# EAGLE library part 05_PINHEAD_1X14 (library femtoduino)
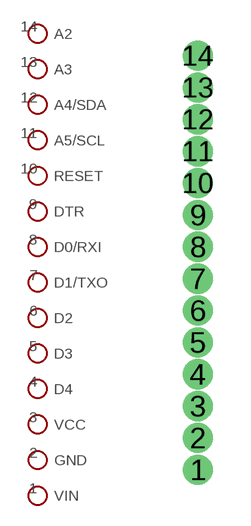
[diagram p3: symbol with the pads of 05_PINHEAD_1X14_PACKAGE; footprint 05_PINHEAD_1X14_PACKAGE]

Designator prefix -

## 05_PINHEAD_1X14  [05_PINHEAD_1X14_PACKAGE]
1  VIN
2  GND
3  VCC
4  D4
5  D3
6  D2
7  D1/TXO
8  D0/RXI
9  DTR
10  RESET
11  A5/SCL
12  A4/SDA
13  A3
14  A2

## Footprint 05_PINHEAD_1X14_PACKAGE (pad centres in mm)
drill 0.7 pad 1.016: 1 0,0; 2 0,1.27; 3 0,2.54; 4 0,3.81; 5 0,5.08; 6 0,6.35; 7 0,7.62; 8 0,8.89; 9 0,10.16; 10 0,11.43; 11 0,12.7; 12 0,13.97; 13 0,15.24; 14 0,16.51